# Altium integrated library Philips Discrete Diode - Switching.IntLib: 284 symbols (part 2 of 5)
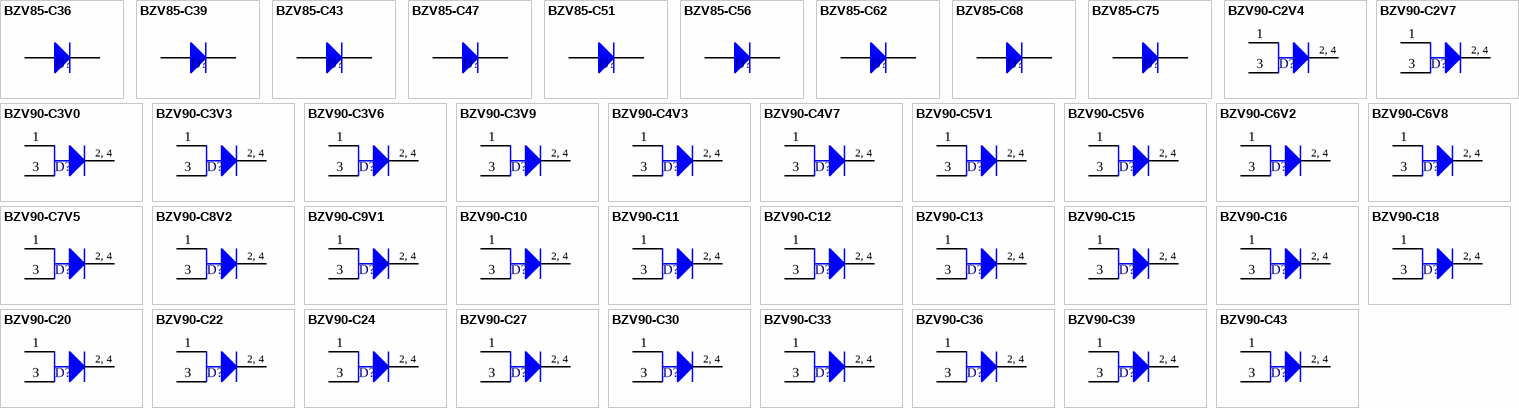
[diagram p8: symbols BZV85-C36 to BZV90-C43]

## BZV90-C27
designator D?
Voltage Regulator Diode; Published: 17-Sep-2003; DatasheetVersion: 17-May-1999; PackageVersion: Aug-2001; PackageReference: SOT223; Publisher: Altium Limited; PackageDescription: SOT-223/SC-73; 4 Leads; Body 6.7 x 7.3 mm, inc. leads (LxW max); ComponentLink1Description: Manufacturer Link; ComponentLink1URL: http://www.semiconductors.philips.com/; ComponentLink2Description: Datasheet; ComponentLink2URL: http://www.semiconductors.philips.com/acrobat/datasheets/BZV90_3.pdf
footprint SOT223 (SOT-223/SC-73; 4 Leads; Body 6.7 x 7.3 mm, inc. leads (LxW max))
simulation model BZV90C27 (SUBCKT)
signal-integrity model BZV90-C27
pins: 1 A, 2 K, 3 A, 4 K
text: 2, 4

## BZV90-C30
designator D?
Voltage Regulator Diode; Published: 17-Sep-2003; DatasheetVersion: 17-May-1999; PackageVersion: Aug-2001; PackageReference: SOT223; Publisher: Altium Limited; PackageDescription: SOT-223/SC-73; 4 Leads; Body 6.7 x 7.3 mm, inc. leads (LxW max); ComponentLink1Description: Manufacturer Link; ComponentLink1URL: http://www.semiconductors.philips.com/; ComponentLink2Description: Datasheet; ComponentLink2URL: http://www.semiconductors.philips.com/acrobat/datasheets/BZV90_3.pdf
footprint SOT223 (SOT-223/SC-73; 4 Leads; Body 6.7 x 7.3 mm, inc. leads (LxW max))
simulation model BZV90C30 (SUBCKT)
signal-integrity model BZV90-C30
pins: 1 A, 2 K, 3 A, 4 K
text: 2, 4

## BZV90-C33
designator D?
Voltage Regulator Diode; Published: 17-Sep-2003; DatasheetVersion: 17-May-1999; PackageVersion: Aug-2001; PackageReference: SOT223; Publisher: Altium Limited; PackageDescription: SOT-223/SC-73; 4 Leads; Body 6.7 x 7.3 mm, inc. leads (LxW max); ComponentLink1Description: Manufacturer Link; ComponentLink1URL: http://www.semiconductors.philips.com/; ComponentLink2Description: Datasheet; ComponentLink2URL: http://www.semiconductors.philips.com/acrobat/datasheets/BZV90_3.pdf
footprint SOT223 (SOT-223/SC-73; 4 Leads; Body 6.7 x 7.3 mm, inc. leads (LxW max))
simulation model BZV90C33 (SUBCKT)
signal-integrity model BZV90-C33
pins: 1 A, 2 K, 3 A, 4 K
text: 2, 4

## BZV90-C36
designator D?
Voltage Regulator Diode; Published: 17-Sep-2003; DatasheetVersion: 17-May-1999; PackageVersion: Aug-2001; PackageReference: SOT223; Publisher: Altium Limited; PackageDescription: SOT-223/SC-73; 4 Leads; Body 6.7 x 7.3 mm, inc. leads (LxW max); ComponentLink1Description: Manufacturer Link; ComponentLink1URL: http://www.semiconductors.philips.com/; ComponentLink2Description: Datasheet; ComponentLink2URL: http://www.semiconductors.philips.com/acrobat/datasheets/BZV90_3.pdf
footprint SOT223 (SOT-223/SC-73; 4 Leads; Body 6.7 x 7.3 mm, inc. leads (LxW max))
simulation model BZV90C36 (SUBCKT)
signal-integrity model BZV90-C36
pins: 1 A, 2 K, 3 A, 4 K
text: 2, 4

## BZV90-C39
designator D?
Voltage Regulator Diode; Published: 17-Sep-2003; DatasheetVersion: 17-May-1999; PackageVersion: Aug-2001; PackageReference: SOT223; Publisher: Altium Limited; PackageDescription: SOT-223/SC-73; 4 Leads; Body 6.7 x 7.3 mm, inc. leads (LxW max); ComponentLink1Description: Manufacturer Link; ComponentLink1URL: http://www.semiconductors.philips.com/; ComponentLink2Description: Datasheet; ComponentLink2URL: http://www.semiconductors.philips.com/acrobat/datasheets/BZV90_3.pdf
footprint SOT223 (SOT-223/SC-73; 4 Leads; Body 6.7 x 7.3 mm, inc. leads (LxW max))
simulation model BZV90C39 (SUBCKT)
signal-integrity model BZV90-C39
pins: 1 A, 2 K, 3 A, 4 K
text: 2, 4

## BZV90-C43
designator D?
Voltage Regulator Diode; Published: 17-Sep-2003; DatasheetVersion: 17-May-1999; PackageVersion: Aug-2001; PackageReference: SOT223; Publisher: Altium Limited; PackageDescription: SOT-223/SC-73; 4 Leads; Body 6.7 x 7.3 mm, inc. leads (LxW max); ComponentLink1Description: Manufacturer Link; ComponentLink1URL: http://www.semiconductors.philips.com/; ComponentLink2Description: Datasheet; ComponentLink2URL: http://www.semiconductors.philips.com/acrobat/datasheets/BZV90_3.pdf
footprint SOT223 (SOT-223/SC-73; 4 Leads; Body 6.7 x 7.3 mm, inc. leads (LxW max))
simulation model BZV90C43 (SUBCKT)
signal-integrity model BZV90-C43
pins: 1 A, 2 K, 3 A, 4 K
text: 2, 4

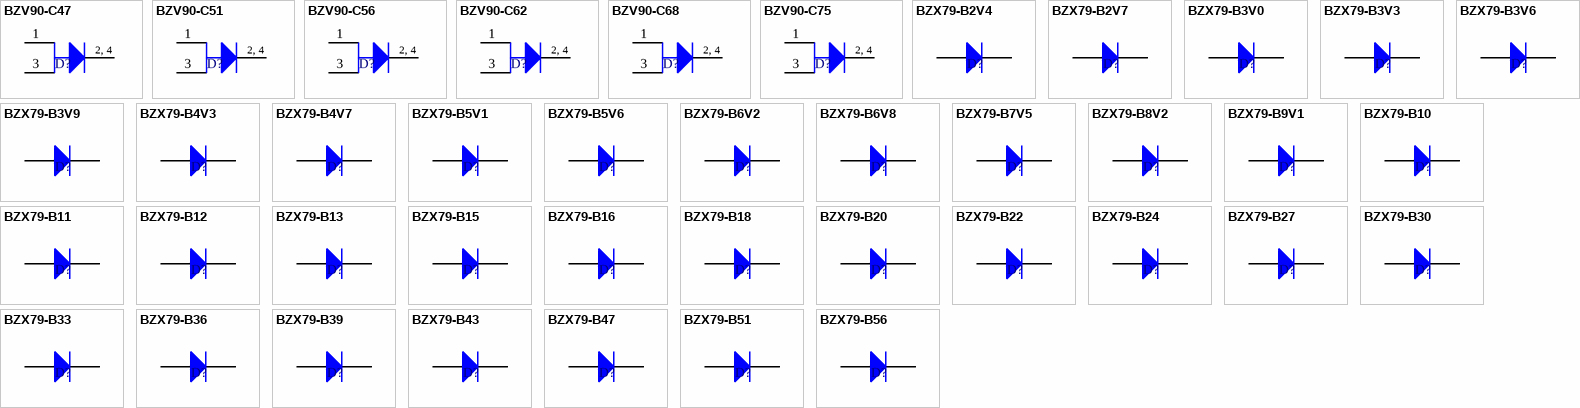
[diagram p2: symbols BZV90-C47 to BZX79-B56]

## BZV90-C47
designator D?
Voltage Regulator Diode; Published: 17-Sep-2003; DatasheetVersion: 17-May-1999; PackageVersion: Aug-2001; PackageReference: SOT223; Publisher: Altium Limited; PackageDescription: SOT-223/SC-73; 4 Leads; Body 6.7 x 7.3 mm, inc. leads (LxW max); ComponentLink1Description: Manufacturer Link; ComponentLink1URL: http://www.semiconductors.philips.com/; ComponentLink2Description: Datasheet; ComponentLink2URL: http://www.semiconductors.philips.com/acrobat/datasheets/BZV90_3.pdf
footprint SOT223 (SOT-223/SC-73; 4 Leads; Body 6.7 x 7.3 mm, inc. leads (LxW max))
simulation model BZV90C47 (SUBCKT)
signal-integrity model BZV90-C47
pins: 1 A, 2 K, 3 A, 4 K
text: 2, 4

## BZV90-C51
designator D?
Voltage Regulator Diode; Published: 17-Sep-2003; DatasheetVersion: 17-May-1999; PackageVersion: Aug-2001; PackageReference: SOT223; Publisher: Altium Limited; PackageDescription: SOT-223/SC-73; 4 Leads; Body 6.7 x 7.3 mm, inc. leads (LxW max); ComponentLink1Description: Manufacturer Link; ComponentLink1URL: http://www.semiconductors.philips.com/; ComponentLink2Description: Datasheet; ComponentLink2URL: http://www.semiconductors.philips.com/acrobat/datasheets/BZV90_3.pdf
footprint SOT223 (SOT-223/SC-73; 4 Leads; Body 6.7 x 7.3 mm, inc. leads (LxW max))
simulation model BZV90C51 (SUBCKT)
signal-integrity model BZV90-C51
pins: 1 A, 2 K, 3 A, 4 K
text: 2, 4

## BZV90-C56
designator D?
Voltage Regulator Diode; Published: 17-Sep-2003; DatasheetVersion: 17-May-1999; PackageVersion: Aug-2001; PackageReference: SOT223; Publisher: Altium Limited; PackageDescription: SOT-223/SC-73; 4 Leads; Body 6.7 x 7.3 mm, inc. leads (LxW max); ComponentLink1Description: Manufacturer Link; ComponentLink1URL: http://www.semiconductors.philips.com/; ComponentLink2Description: Datasheet; ComponentLink2URL: http://www.semiconductors.philips.com/acrobat/datasheets/BZV90_3.pdf
footprint SOT223 (SOT-223/SC-73; 4 Leads; Body 6.7 x 7.3 mm, inc. leads (LxW max))
simulation model BZV90C56 (SUBCKT)
signal-integrity model BZV90-C56
pins: 1 A, 2 K, 3 A, 4 K
text: 2, 4

## BZV90-C62
designator D?
Voltage Regulator Diode; Published: 17-Sep-2003; DatasheetVersion: 17-May-1999; PackageVersion: Aug-2001; PackageReference: SOT223; Publisher: Altium Limited; PackageDescription: SOT-223/SC-73; 4 Leads; Body 6.7 x 7.3 mm, inc. leads (LxW max); ComponentLink1Description: Manufacturer Link; ComponentLink1URL: http://www.semiconductors.philips.com/; ComponentLink2Description: Datasheet; ComponentLink2URL: http://www.semiconductors.philips.com/acrobat/datasheets/BZV90_3.pdf
footprint SOT223 (SOT-223/SC-73; 4 Leads; Body 6.7 x 7.3 mm, inc. leads (LxW max))
simulation model BZV90C62 (SUBCKT)
signal-integrity model BZV90-C62
pins: 1 A, 2 K, 3 A, 4 K
text: 2, 4

## BZV90-C68
designator D?
Voltage Regulator Diode; Published: 17-Sep-2003; DatasheetVersion: 17-May-1999; PackageVersion: Aug-2001; PackageReference: SOT223; Publisher: Altium Limited; PackageDescription: SOT-223/SC-73; 4 Leads; Body 6.7 x 7.3 mm, inc. leads (LxW max); ComponentLink1Description: Manufacturer Link; ComponentLink1URL: http://www.semiconductors.philips.com/; ComponentLink2Description: Datasheet; ComponentLink2URL: http://www.semiconductors.philips.com/acrobat/datasheets/BZV90_3.pdf
footprint SOT223 (SOT-223/SC-73; 4 Leads; Body 6.7 x 7.3 mm, inc. leads (LxW max))
simulation model BZV90C68 (SUBCKT)
signal-integrity model BZV90-C68
pins: 1 A, 2 K, 3 A, 4 K
text: 2, 4

## BZV90-C75
designator D?
Voltage Regulator Diode; Published: 17-Sep-2003; DatasheetVersion: 17-May-1999; PackageVersion: Aug-2001; PackageReference: SOT223; Publisher: Altium Limited; PackageDescription: SOT-223/SC-73; 4 Leads; Body 6.7 x 7.3 mm, inc. leads (LxW max); ComponentLink1Description: Manufacturer Link; ComponentLink1URL: http://www.semiconductors.philips.com/; ComponentLink2Description: Datasheet; ComponentLink2URL: http://www.semiconductors.philips.com/acrobat/datasheets/BZV90_3.pdf
footprint SOT223 (SOT-223/SC-73; 4 Leads; Body 6.7 x 7.3 mm, inc. leads (LxW max))
simulation model BZV90C75 (SUBCKT)
signal-integrity model BZV90-C75
pins: 1 A, 2 K, 3 A, 4 K
text: 2, 4

## BZX79-B2V4
designator D?
Voltage Regulator Diode; Code_IEC: A24; Published: 17-Sep-2003; DatasheetVersion: 27-Feb-2002; PackageVersion: Apr-1999; PackageReference: SOD27; Publisher: Altium Limited; PackageDescription: Diode, Axial; Body 4.3 x 1.9 mm (LxDia. max), Lead Dia. 0.56 mm (max); Code_JEITA: SC-40; Code_JEDEC: DO-35; ComponentLink1Description: Manufacturer Link; ComponentLink1URL: http://www.semiconductors.philips.com/; ComponentLink2Description: Datasheet; ComponentLink2URL: http://www.semiconductors.philips.com/acrobat/datasheets/BZX79_3.pdf
footprint SOD27 (Diode, Axial; Body 4.3 x 1.9 mm (LxDia. max), Lead Dia. 0.56 mm (max))
simulation model BZX79B2V4 (SUBCKT)
signal-integrity model BZX79-B2V4
pins: 1 A, 2 K

## BZX79-B2V7
designator D?
Voltage Regulator Diode; Code_IEC: A24; Published: 17-Sep-2003; DatasheetVersion: 27-Feb-2002; PackageVersion: Apr-1999; PackageReference: SOD27; Publisher: Altium Limited; PackageDescription: Diode, Axial; Body 4.3 x 1.9 mm (LxDia. max), Lead Dia. 0.56 mm (max); Code_JEITA: SC-40; Code_JEDEC: DO-35; ComponentLink1Description: Manufacturer Link; ComponentLink1URL: http://www.semiconductors.philips.com/; ComponentLink2Description: Datasheet; ComponentLink2URL: http://www.semiconductors.philips.com/acrobat/datasheets/BZX79_3.pdf
footprint SOD27 (Diode, Axial; Body 4.3 x 1.9 mm (LxDia. max), Lead Dia. 0.56 mm (max))
simulation model BZX79B2V7 (SUBCKT)
signal-integrity model BZX79-B2V7
pins: 1 A, 2 K

## BZX79-B3V0
designator D?
Voltage Regulator Diode; Code_IEC: A24; Published: 17-Sep-2003; DatasheetVersion: 27-Feb-2002; PackageVersion: Apr-1999; PackageReference: SOD27; Publisher: Altium Limited; PackageDescription: Diode, Axial; Body 4.3 x 1.9 mm (LxDia. max), Lead Dia. 0.56 mm (max); Code_JEITA: SC-40; Code_JEDEC: DO-35; ComponentLink1Description: Manufacturer Link; ComponentLink1URL: http://www.semiconductors.philips.com/; ComponentLink2Description: Datasheet; ComponentLink2URL: http://www.semiconductors.philips.com/acrobat/datasheets/BZX79_3.pdf
footprint SOD27 (Diode, Axial; Body 4.3 x 1.9 mm (LxDia. max), Lead Dia. 0.56 mm (max))
simulation model BZX79B3V0 (SUBCKT)
signal-integrity model BZX79-B3V0
pins: 1 A, 2 K

## BZX79-B3V3
designator D?
Voltage Regulator Diode; Code_IEC: A24; Published: 17-Sep-2003; DatasheetVersion: 27-Feb-2002; PackageVersion: Apr-1999; PackageReference: SOD27; Publisher: Altium Limited; PackageDescription: Diode, Axial; Body 4.3 x 1.9 mm (LxDia. max), Lead Dia. 0.56 mm (max); Code_JEITA: SC-40; Code_JEDEC: DO-35; ComponentLink1Description: Manufacturer Link; ComponentLink1URL: http://www.semiconductors.philips.com/; ComponentLink2Description: Datasheet; ComponentLink2URL: http://www.semiconductors.philips.com/acrobat/datasheets/BZX79_3.pdf
footprint SOD27 (Diode, Axial; Body 4.3 x 1.9 mm (LxDia. max), Lead Dia. 0.56 mm (max))
simulation model BZX79B3V3 (SUBCKT)
signal-integrity model BZX79-B3V3
pins: 1 A, 2 K

## BZX79-B3V6
designator D?
Voltage Regulator Diode; Code_IEC: A24; Published: 17-Sep-2003; DatasheetVersion: 27-Feb-2002; PackageVersion: Apr-1999; PackageReference: SOD27; Publisher: Altium Limited; PackageDescription: Diode, Axial; Body 4.3 x 1.9 mm (LxDia. max), Lead Dia. 0.56 mm (max); Code_JEITA: SC-40; Code_JEDEC: DO-35; ComponentLink1Description: Manufacturer Link; ComponentLink1URL: http://www.semiconductors.philips.com/; ComponentLink2Description: Datasheet; ComponentLink2URL: http://www.semiconductors.philips.com/acrobat/datasheets/BZX79_3.pdf
footprint SOD27 (Diode, Axial; Body 4.3 x 1.9 mm (LxDia. max), Lead Dia. 0.56 mm (max))
simulation model BZX79B3V6 (SUBCKT)
signal-integrity model BZX79-B3V6
pins: 1 A, 2 K

## BZX79-B3V9
designator D?
Voltage Regulator Diode; Code_IEC: A24; Published: 17-Sep-2003; DatasheetVersion: 27-Feb-2002; PackageVersion: Apr-1999; PackageReference: SOD27; Publisher: Altium Limited; PackageDescription: Diode, Axial; Body 4.3 x 1.9 mm (LxDia. max), Lead Dia. 0.56 mm (max); Code_JEITA: SC-40; Code_JEDEC: DO-35; ComponentLink1Description: Manufacturer Link; ComponentLink1URL: http://www.semiconductors.philips.com/; ComponentLink2Description: Datasheet; ComponentLink2URL: http://www.semiconductors.philips.com/acrobat/datasheets/BZX79_3.pdf
footprint SOD27 (Diode, Axial; Body 4.3 x 1.9 mm (LxDia. max), Lead Dia. 0.56 mm (max))
simulation model BZX79B3V9 (SUBCKT)
signal-integrity model BZX79-B3V9
pins: 1 A, 2 K

## BZX79-B4V3
designator D?
Voltage Regulator Diode; Code_IEC: A24; Published: 17-Sep-2003; DatasheetVersion: 27-Feb-2002; PackageVersion: Apr-1999; PackageReference: SOD27; Publisher: Altium Limited; PackageDescription: Diode, Axial; Body 4.3 x 1.9 mm (LxDia. max), Lead Dia. 0.56 mm (max); Code_JEITA: SC-40; Code_JEDEC: DO-35; ComponentLink1Description: Manufacturer Link; ComponentLink1URL: http://www.semiconductors.philips.com/; ComponentLink2Description: Datasheet; ComponentLink2URL: http://www.semiconductors.philips.com/acrobat/datasheets/BZX79_3.pdf
footprint SOD27 (Diode, Axial; Body 4.3 x 1.9 mm (LxDia. max), Lead Dia. 0.56 mm (max))
simulation model BZX79B4V3 (SUBCKT)
signal-integrity model BZX79-B4V3
pins: 1 A, 2 K

## BZX79-B4V7
designator D?
Voltage Regulator Diode; Code_IEC: A24; Published: 17-Sep-2003; DatasheetVersion: 27-Feb-2002; PackageVersion: Apr-1999; PackageReference: SOD27; Publisher: Altium Limited; PackageDescription: Diode, Axial; Body 4.3 x 1.9 mm (LxDia. max), Lead Dia. 0.56 mm (max); Code_JEITA: SC-40; Code_JEDEC: DO-35; ComponentLink1Description: Manufacturer Link; ComponentLink1URL: http://www.semiconductors.philips.com/; ComponentLink2Description: Datasheet; ComponentLink2URL: http://www.semiconductors.philips.com/acrobat/datasheets/BZX79_3.pdf
footprint SOD27 (Diode, Axial; Body 4.3 x 1.9 mm (LxDia. max), Lead Dia. 0.56 mm (max))
simulation model BZX79B4V7 (SUBCKT)
signal-integrity model BZX79-B4V7
pins: 1 A, 2 K

## BZX79-B5V1
designator D?
Voltage Regulator Diode; Code_IEC: A24; Published: 17-Sep-2003; DatasheetVersion: 27-Feb-2002; PackageVersion: Apr-1999; PackageReference: SOD27; Publisher: Altium Limited; PackageDescription: Diode, Axial; Body 4.3 x 1.9 mm (LxDia. max), Lead Dia. 0.56 mm (max); Code_JEITA: SC-40; Code_JEDEC: DO-35; ComponentLink1Description: Manufacturer Link; ComponentLink1URL: http://www.semiconductors.philips.com/; ComponentLink2Description: Datasheet; ComponentLink2URL: http://www.semiconductors.philips.com/acrobat/datasheets/BZX79_3.pdf
footprint SOD27 (Diode, Axial; Body 4.3 x 1.9 mm (LxDia. max), Lead Dia. 0.56 mm (max))
simulation model BZX79B5V1 (SUBCKT)
signal-integrity model BZX79-B5V1
pins: 1 A, 2 K

## BZX79-B5V6
designator D?
Voltage Regulator Diode; Code_IEC: A24; Published: 17-Sep-2003; DatasheetVersion: 27-Feb-2002; PackageVersion: Apr-1999; PackageReference: SOD27; Publisher: Altium Limited; PackageDescription: Diode, Axial; Body 4.3 x 1.9 mm (LxDia. max), Lead Dia. 0.56 mm (max); Code_JEITA: SC-40; Code_JEDEC: DO-35; ComponentLink1Description: Manufacturer Link; ComponentLink1URL: http://www.semiconductors.philips.com/; ComponentLink2Description: Datasheet; ComponentLink2URL: http://www.semiconductors.philips.com/acrobat/datasheets/BZX79_3.pdf
footprint SOD27 (Diode, Axial; Body 4.3 x 1.9 mm (LxDia. max), Lead Dia. 0.56 mm (max))
simulation model BZX79B5V6 (SUBCKT)
signal-integrity model BZX79-B5V6
pins: 1 A, 2 K

## BZX79-B6V2
designator D?
Voltage Regulator Diode; Code_IEC: A24; Published: 17-Sep-2003; DatasheetVersion: 27-Feb-2002; PackageVersion: Apr-1999; PackageReference: SOD27; Publisher: Altium Limited; PackageDescription: Diode, Axial; Body 4.3 x 1.9 mm (LxDia. max), Lead Dia. 0.56 mm (max); Code_JEITA: SC-40; Code_JEDEC: DO-35; ComponentLink1Description: Manufacturer Link; ComponentLink1URL: http://www.semiconductors.philips.com/; ComponentLink2Description: Datasheet; ComponentLink2URL: http://www.semiconductors.philips.com/acrobat/datasheets/BZX79_3.pdf
footprint SOD27 (Diode, Axial; Body 4.3 x 1.9 mm (LxDia. max), Lead Dia. 0.56 mm (max))
simulation model BZX79B6V2 (SUBCKT)
signal-integrity model BZX79-B6V2
pins: 1 A, 2 K

## BZX79-B6V8
designator D?
Voltage Regulator Diode; Code_IEC: A24; Published: 17-Sep-2003; DatasheetVersion: 27-Feb-2002; PackageVersion: Apr-1999; PackageReference: SOD27; Publisher: Altium Limited; PackageDescription: Diode, Axial; Body 4.3 x 1.9 mm (LxDia. max), Lead Dia. 0.56 mm (max); Code_JEITA: SC-40; Code_JEDEC: DO-35; ComponentLink1Description: Manufacturer Link; ComponentLink1URL: http://www.semiconductors.philips.com/; ComponentLink2Description: Datasheet; ComponentLink2URL: http://www.semiconductors.philips.com/acrobat/datasheets/BZX79_3.pdf
footprint SOD27 (Diode, Axial; Body 4.3 x 1.9 mm (LxDia. max), Lead Dia. 0.56 mm (max))
simulation model BZX79B6V8 (SUBCKT)
signal-integrity model BZX79-B6V8
pins: 1 A, 2 K

## BZX79-B7V5
designator D?
Voltage Regulator Diode; Code_IEC: A24; Published: 17-Sep-2003; DatasheetVersion: 27-Feb-2002; PackageVersion: Apr-1999; PackageReference: SOD27; Publisher: Altium Limited; PackageDescription: Diode, Axial; Body 4.3 x 1.9 mm (LxDia. max), Lead Dia. 0.56 mm (max); Code_JEITA: SC-40; Code_JEDEC: DO-35; ComponentLink1Description: Manufacturer Link; ComponentLink1URL: http://www.semiconductors.philips.com/; ComponentLink2Description: Datasheet; ComponentLink2URL: http://www.semiconductors.philips.com/acrobat/datasheets/BZX79_3.pdf
footprint SOD27 (Diode, Axial; Body 4.3 x 1.9 mm (LxDia. max), Lead Dia. 0.56 mm (max))
simulation model BZX79B7V5 (SUBCKT)
signal-integrity model BZX79-B7V5
pins: 1 A, 2 K

## BZX79-B8V2
designator D?
Voltage Regulator Diode; Code_IEC: A24; Published: 17-Sep-2003; DatasheetVersion: 27-Feb-2002; PackageVersion: Apr-1999; PackageReference: SOD27; Publisher: Altium Limited; PackageDescription: Diode, Axial; Body 4.3 x 1.9 mm (LxDia. max), Lead Dia. 0.56 mm (max); Code_JEITA: SC-40; Code_JEDEC: DO-35; ComponentLink1Description: Manufacturer Link; ComponentLink1URL: http://www.semiconductors.philips.com/; ComponentLink2Description: Datasheet; ComponentLink2URL: http://www.semiconductors.philips.com/acrobat/datasheets/BZX79_3.pdf
footprint SOD27 (Diode, Axial; Body 4.3 x 1.9 mm (LxDia. max), Lead Dia. 0.56 mm (max))
simulation model BZX79B8V2 (SUBCKT)
signal-integrity model BZX79-B8V2
pins: 1 A, 2 K

## BZX79-B9V1
designator D?
Voltage Regulator Diode; Code_IEC: A24; Published: 17-Sep-2003; DatasheetVersion: 27-Feb-2002; PackageVersion: Apr-1999; PackageReference: SOD27; Publisher: Altium Limited; PackageDescription: Diode, Axial; Body 4.3 x 1.9 mm (LxDia. max), Lead Dia. 0.56 mm (max); Code_JEITA: SC-40; Code_JEDEC: DO-35; ComponentLink1Description: Manufacturer Link; ComponentLink1URL: http://www.semiconductors.philips.com/; ComponentLink2Description: Datasheet; ComponentLink2URL: http://www.semiconductors.philips.com/acrobat/datasheets/BZX79_3.pdf
footprint SOD27 (Diode, Axial; Body 4.3 x 1.9 mm (LxDia. max), Lead Dia. 0.56 mm (max))
simulation model BZX79B9V1 (SUBCKT)
signal-integrity model BZX79-B9V1
pins: 1 A, 2 K

## BZX79-B10
designator D?
Voltage Regulator Diode; Code_IEC: A24; Published: 17-Sep-2003; DatasheetVersion: 27-Feb-2002; PackageVersion: Apr-1999; PackageReference: SOD27; Publisher: Altium Limited; PackageDescription: Diode, Axial; Body 4.3 x 1.9 mm (LxDia. max), Lead Dia. 0.56 mm (max); Code_JEITA: SC-40; Code_JEDEC: DO-35; ComponentLink1Description: Manufacturer Link; ComponentLink1URL: http://www.semiconductors.philips.com/; ComponentLink2Description: Datasheet; ComponentLink2URL: http://www.semiconductors.philips.com/acrobat/datasheets/BZX79_3.pdf
footprint SOD27 (Diode, Axial; Body 4.3 x 1.9 mm (LxDia. max), Lead Dia. 0.56 mm (max))
simulation model BZX79B10 (SUBCKT)
signal-integrity model BZX79-B10
pins: 1 A, 2 K

## BZX79-B11
designator D?
Voltage Regulator Diode; Code_IEC: A24; Published: 17-Sep-2003; DatasheetVersion: 27-Feb-2002; PackageVersion: Apr-1999; PackageReference: SOD27; Publisher: Altium Limited; PackageDescription: Diode, Axial; Body 4.3 x 1.9 mm (LxDia. max), Lead Dia. 0.56 mm (max); Code_JEITA: SC-40; Code_JEDEC: DO-35; ComponentLink1Description: Manufacturer Link; ComponentLink1URL: http://www.semiconductors.philips.com/; ComponentLink2Description: Datasheet; ComponentLink2URL: http://www.semiconductors.philips.com/acrobat/datasheets/BZX79_3.pdf
footprint SOD27 (Diode, Axial; Body 4.3 x 1.9 mm (LxDia. max), Lead Dia. 0.56 mm (max))
simulation model BZX79B11 (SUBCKT)
signal-integrity model BZX79-B11
pins: 1 A, 2 K

## BZX79-B12
designator D?
Voltage Regulator Diode; Code_IEC: A24; Published: 17-Sep-2003; DatasheetVersion: 27-Feb-2002; PackageVersion: Apr-1999; PackageReference: SOD27; Publisher: Altium Limited; PackageDescription: Diode, Axial; Body 4.3 x 1.9 mm (LxDia. max), Lead Dia. 0.56 mm (max); Code_JEITA: SC-40; Code_JEDEC: DO-35; ComponentLink1Description: Manufacturer Link; ComponentLink1URL: http://www.semiconductors.philips.com/; ComponentLink2Description: Datasheet; ComponentLink2URL: http://www.semiconductors.philips.com/acrobat/datasheets/BZX79_3.pdf
footprint SOD27 (Diode, Axial; Body 4.3 x 1.9 mm (LxDia. max), Lead Dia. 0.56 mm (max))
simulation model BZX79B12 (SUBCKT)
signal-integrity model BZX79-B12
pins: 1 A, 2 K

## BZX79-B13
designator D?
Voltage Regulator Diode; Code_IEC: A24; Published: 17-Sep-2003; DatasheetVersion: 27-Feb-2002; PackageVersion: Apr-1999; PackageReference: SOD27; Publisher: Altium Limited; PackageDescription: Diode, Axial; Body 4.3 x 1.9 mm (LxDia. max), Lead Dia. 0.56 mm (max); Code_JEITA: SC-40; Code_JEDEC: DO-35; ComponentLink1Description: Manufacturer Link; ComponentLink1URL: http://www.semiconductors.philips.com/; ComponentLink2Description: Datasheet; ComponentLink2URL: http://www.semiconductors.philips.com/acrobat/datasheets/BZX79_3.pdf
footprint SOD27 (Diode, Axial; Body 4.3 x 1.9 mm (LxDia. max), Lead Dia. 0.56 mm (max))
simulation model BZX79B13 (SUBCKT)
signal-integrity model BZX79-B13
pins: 1 A, 2 K

## BZX79-B15
designator D?
Voltage Regulator Diode; Code_IEC: A24; Published: 17-Sep-2003; DatasheetVersion: 27-Feb-2002; PackageVersion: Apr-1999; PackageReference: SOD27; Publisher: Altium Limited; PackageDescription: Diode, Axial; Body 4.3 x 1.9 mm (LxDia. max), Lead Dia. 0.56 mm (max); Code_JEITA: SC-40; Code_JEDEC: DO-35; ComponentLink1Description: Manufacturer Link; ComponentLink1URL: http://www.semiconductors.philips.com/; ComponentLink2Description: Datasheet; ComponentLink2URL: http://www.semiconductors.philips.com/acrobat/datasheets/BZX79_3.pdf
footprint SOD27 (Diode, Axial; Body 4.3 x 1.9 mm (LxDia. max), Lead Dia. 0.56 mm (max))
simulation model BZX79B15 (SUBCKT)
signal-integrity model BZX79-B15
pins: 1 A, 2 K

## BZX79-B16
designator D?
Voltage Regulator Diode; Code_IEC: A24; Published: 17-Sep-2003; DatasheetVersion: 27-Feb-2002; PackageVersion: Apr-1999; PackageReference: SOD27; Publisher: Altium Limited; PackageDescription: Diode, Axial; Body 4.3 x 1.9 mm (LxDia. max), Lead Dia. 0.56 mm (max); Code_JEITA: SC-40; Code_JEDEC: DO-35; ComponentLink1Description: Manufacturer Link; ComponentLink1URL: http://www.semiconductors.philips.com/; ComponentLink2Description: Datasheet; ComponentLink2URL: http://www.semiconductors.philips.com/acrobat/datasheets/BZX79_3.pdf
footprint SOD27 (Diode, Axial; Body 4.3 x 1.9 mm (LxDia. max), Lead Dia. 0.56 mm (max))
simulation model BZX79B16 (SUBCKT)
signal-integrity model BZX79-B16
pins: 1 A, 2 K

## BZX79-B18
designator D?
Voltage Regulator Diode; Code_IEC: A24; Published: 17-Sep-2003; DatasheetVersion: 27-Feb-2002; PackageVersion: Apr-1999; PackageReference: SOD27; Publisher: Altium Limited; PackageDescription: Diode, Axial; Body 4.3 x 1.9 mm (LxDia. max), Lead Dia. 0.56 mm (max); Code_JEITA: SC-40; Code_JEDEC: DO-35; ComponentLink1Description: Manufacturer Link; ComponentLink1URL: http://www.semiconductors.philips.com/; ComponentLink2Description: Datasheet; ComponentLink2URL: http://www.semiconductors.philips.com/acrobat/datasheets/BZX79_3.pdf
footprint SOD27 (Diode, Axial; Body 4.3 x 1.9 mm (LxDia. max), Lead Dia. 0.56 mm (max))
simulation model BZX79B18 (SUBCKT)
signal-integrity model BZX79-B18
pins: 1 A, 2 K

## BZX79-B20
designator D?
Voltage Regulator Diode; Code_IEC: A24; Published: 17-Sep-2003; DatasheetVersion: 27-Feb-2002; PackageVersion: Apr-1999; PackageReference: SOD27; Publisher: Altium Limited; PackageDescription: Diode, Axial; Body 4.3 x 1.9 mm (LxDia. max), Lead Dia. 0.56 mm (max); Code_JEITA: SC-40; Code_JEDEC: DO-35; ComponentLink1Description: Manufacturer Link; ComponentLink1URL: http://www.semiconductors.philips.com/; ComponentLink2Description: Datasheet; ComponentLink2URL: http://www.semiconductors.philips.com/acrobat/datasheets/BZX79_3.pdf
footprint SOD27 (Diode, Axial; Body 4.3 x 1.9 mm (LxDia. max), Lead Dia. 0.56 mm (max))
simulation model BZX79B20 (SUBCKT)
signal-integrity model BZX79-B20
pins: 1 A, 2 K

## BZX79-B22
designator D?
Voltage Regulator Diode; Code_IEC: A24; Published: 17-Sep-2003; DatasheetVersion: 27-Feb-2002; PackageVersion: Apr-1999; PackageReference: SOD27; Publisher: Altium Limited; PackageDescription: Diode, Axial; Body 4.3 x 1.9 mm (LxDia. max), Lead Dia. 0.56 mm (max); Code_JEITA: SC-40; Code_JEDEC: DO-35; ComponentLink1Description: Manufacturer Link; ComponentLink1URL: http://www.semiconductors.philips.com/; ComponentLink2Description: Datasheet; ComponentLink2URL: http://www.semiconductors.philips.com/acrobat/datasheets/BZX79_3.pdf
footprint SOD27 (Diode, Axial; Body 4.3 x 1.9 mm (LxDia. max), Lead Dia. 0.56 mm (max))
simulation model BZX79B22 (SUBCKT)
signal-integrity model BZX79-B22
pins: 1 A, 2 K

## BZX79-B24
designator D?
Voltage Regulator Diode; Code_IEC: A24; Published: 17-Sep-2003; DatasheetVersion: 27-Feb-2002; PackageVersion: Apr-1999; PackageReference: SOD27; Publisher: Altium Limited; PackageDescription: Diode, Axial; Body 4.3 x 1.9 mm (LxDia. max), Lead Dia. 0.56 mm (max); Code_JEITA: SC-40; Code_JEDEC: DO-35; ComponentLink1Description: Manufacturer Link; ComponentLink1URL: http://www.semiconductors.philips.com/; ComponentLink2Description: Datasheet; ComponentLink2URL: http://www.semiconductors.philips.com/acrobat/datasheets/BZX79_3.pdf
footprint SOD27 (Diode, Axial; Body 4.3 x 1.9 mm (LxDia. max), Lead Dia. 0.56 mm (max))
simulation model BZX79B24 (SUBCKT)
signal-integrity model BZX79-B24
pins: 1 A, 2 K

## BZX79-B27
designator D?
Voltage Regulator Diode; Code_IEC: A24; Published: 17-Sep-2003; DatasheetVersion: 27-Feb-2002; PackageVersion: Apr-1999; PackageReference: SOD27; Publisher: Altium Limited; PackageDescription: Diode, Axial; Body 4.3 x 1.9 mm (LxDia. max), Lead Dia. 0.56 mm (max); Code_JEITA: SC-40; Code_JEDEC: DO-35; ComponentLink1Description: Manufacturer Link; ComponentLink1URL: http://www.semiconductors.philips.com/; ComponentLink2Description: Datasheet; ComponentLink2URL: http://www.semiconductors.philips.com/acrobat/datasheets/BZX79_3.pdf
footprint SOD27 (Diode, Axial; Body 4.3 x 1.9 mm (LxDia. max), Lead Dia. 0.56 mm (max))
simulation model BZX79B27 (SUBCKT)
signal-integrity model BZX79-B27
pins: 1 A, 2 K

## BZX79-B30
designator D?
Voltage Regulator Diode; Code_IEC: A24; Published: 17-Sep-2003; DatasheetVersion: 27-Feb-2002; PackageVersion: Apr-1999; PackageReference: SOD27; Publisher: Altium Limited; PackageDescription: Diode, Axial; Body 4.3 x 1.9 mm (LxDia. max), Lead Dia. 0.56 mm (max); Code_JEITA: SC-40; Code_JEDEC: DO-35; ComponentLink1Description: Manufacturer Link; ComponentLink1URL: http://www.semiconductors.philips.com/; ComponentLink2Description: Datasheet; ComponentLink2URL: http://www.semiconductors.philips.com/acrobat/datasheets/BZX79_3.pdf
footprint SOD27 (Diode, Axial; Body 4.3 x 1.9 mm (LxDia. max), Lead Dia. 0.56 mm (max))
simulation model BZX79B30 (SUBCKT)
signal-integrity model BZX79-B30
pins: 1 A, 2 K

## BZX79-B33
designator D?
Voltage Regulator Diode; Code_IEC: A24; Published: 17-Sep-2003; DatasheetVersion: 27-Feb-2002; PackageVersion: Apr-1999; PackageReference: SOD27; Publisher: Altium Limited; PackageDescription: Diode, Axial; Body 4.3 x 1.9 mm (LxDia. max), Lead Dia. 0.56 mm (max); Code_JEITA: SC-40; Code_JEDEC: DO-35; ComponentLink1Description: Manufacturer Link; ComponentLink1URL: http://www.semiconductors.philips.com/; ComponentLink2Description: Datasheet; ComponentLink2URL: http://www.semiconductors.philips.com/acrobat/datasheets/BZX79_3.pdf
footprint SOD27 (Diode, Axial; Body 4.3 x 1.9 mm (LxDia. max), Lead Dia. 0.56 mm (max))
simulation model BZX79B33 (SUBCKT)
signal-integrity model BZX79-B33
pins: 1 A, 2 K

## BZX79-B36
designator D?
Voltage Regulator Diode; Code_IEC: A24; Published: 17-Sep-2003; DatasheetVersion: 27-Feb-2002; PackageVersion: Apr-1999; PackageReference: SOD27; Publisher: Altium Limited; PackageDescription: Diode, Axial; Body 4.3 x 1.9 mm (LxDia. max), Lead Dia. 0.56 mm (max); Code_JEITA: SC-40; Code_JEDEC: DO-35; ComponentLink1Description: Manufacturer Link; ComponentLink1URL: http://www.semiconductors.philips.com/; ComponentLink2Description: Datasheet; ComponentLink2URL: http://www.semiconductors.philips.com/acrobat/datasheets/BZX79_3.pdf
footprint SOD27 (Diode, Axial; Body 4.3 x 1.9 mm (LxDia. max), Lead Dia. 0.56 mm (max))
simulation model BZX79B36 (SUBCKT)
signal-integrity model BZX79-B36
pins: 1 A, 2 K

## BZX79-B39
designator D?
Voltage Regulator Diode; Code_IEC: A24; Published: 17-Sep-2003; DatasheetVersion: 27-Feb-2002; PackageVersion: Apr-1999; PackageReference: SOD27; Publisher: Altium Limited; PackageDescription: Diode, Axial; Body 4.3 x 1.9 mm (LxDia. max), Lead Dia. 0.56 mm (max); Code_JEITA: SC-40; Code_JEDEC: DO-35; ComponentLink1Description: Manufacturer Link; ComponentLink1URL: http://www.semiconductors.philips.com/; ComponentLink2Description: Datasheet; ComponentLink2URL: http://www.semiconductors.philips.com/acrobat/datasheets/BZX79_3.pdf
footprint SOD27 (Diode, Axial; Body 4.3 x 1.9 mm (LxDia. max), Lead Dia. 0.56 mm (max))
simulation model BZX79B39 (SUBCKT)
signal-integrity model BZX79-B39
pins: 1 A, 2 K

## BZX79-B43
designator D?
Voltage Regulator Diode; Code_IEC: A24; Published: 17-Sep-2003; DatasheetVersion: 27-Feb-2002; PackageVersion: Apr-1999; PackageReference: SOD27; Publisher: Altium Limited; PackageDescription: Diode, Axial; Body 4.3 x 1.9 mm (LxDia. max), Lead Dia. 0.56 mm (max); Code_JEITA: SC-40; Code_JEDEC: DO-35; ComponentLink1Description: Manufacturer Link; ComponentLink1URL: http://www.semiconductors.philips.com/; ComponentLink2Description: Datasheet; ComponentLink2URL: http://www.semiconductors.philips.com/acrobat/datasheets/BZX79_3.pdf
footprint SOD27 (Diode, Axial; Body 4.3 x 1.9 mm (LxDia. max), Lead Dia. 0.56 mm (max))
simulation model BZX79B43 (SUBCKT)
signal-integrity model BZX79-B43
pins: 1 A, 2 K

## BZX79-B47
designator D?
Voltage Regulator Diode; Code_IEC: A24; Published: 17-Sep-2003; DatasheetVersion: 27-Feb-2002; PackageVersion: Apr-1999; PackageReference: SOD27; Publisher: Altium Limited; PackageDescription: Diode, Axial; Body 4.3 x 1.9 mm (LxDia. max), Lead Dia. 0.56 mm (max); Code_JEITA: SC-40; Code_JEDEC: DO-35; ComponentLink1Description: Manufacturer Link; ComponentLink1URL: http://www.semiconductors.philips.com/; ComponentLink2Description: Datasheet; ComponentLink2URL: http://www.semiconductors.philips.com/acrobat/datasheets/BZX79_3.pdf
footprint SOD27 (Diode, Axial; Body 4.3 x 1.9 mm (LxDia. max), Lead Dia. 0.56 mm (max))
simulation model BZX79B47 (SUBCKT)
signal-integrity model BZX79-B47
pins: 1 A, 2 K

## BZX79-B51
designator D?
Voltage Regulator Diode; Code_IEC: A24; Published: 17-Sep-2003; DatasheetVersion: 27-Feb-2002; PackageVersion: Apr-1999; PackageReference: SOD27; Publisher: Altium Limited; PackageDescription: Diode, Axial; Body 4.3 x 1.9 mm (LxDia. max), Lead Dia. 0.56 mm (max); Code_JEITA: SC-40; Code_JEDEC: DO-35; ComponentLink1Description: Manufacturer Link; ComponentLink1URL: http://www.semiconductors.philips.com/; ComponentLink2Description: Datasheet; ComponentLink2URL: http://www.semiconductors.philips.com/acrobat/datasheets/BZX79_3.pdf
footprint SOD27 (Diode, Axial; Body 4.3 x 1.9 mm (LxDia. max), Lead Dia. 0.56 mm (max))
simulation model BZX79B51 (SUBCKT)
signal-integrity model BZX79-B51
pins: 1 A, 2 K

## BZX79-B56
designator D?
Voltage Regulator Diode; Code_IEC: A24; Published: 17-Sep-2003; DatasheetVersion: 27-Feb-2002; PackageVersion: Apr-1999; PackageReference: SOD27; Publisher: Altium Limited; PackageDescription: Diode, Axial; Body 4.3 x 1.9 mm (LxDia. max), Lead Dia. 0.56 mm (max); Code_JEITA: SC-40; Code_JEDEC: DO-35; ComponentLink1Description: Manufacturer Link; ComponentLink1URL: http://www.semiconductors.philips.com/; ComponentLink2Description: Datasheet; ComponentLink2URL: http://www.semiconductors.philips.com/acrobat/datasheets/BZX79_3.pdf
footprint SOD27 (Diode, Axial; Body 4.3 x 1.9 mm (LxDia. max), Lead Dia. 0.56 mm (max))
simulation model BZX79B56 (SUBCKT)
signal-integrity model BZX79-B56
pins: 1 A, 2 K

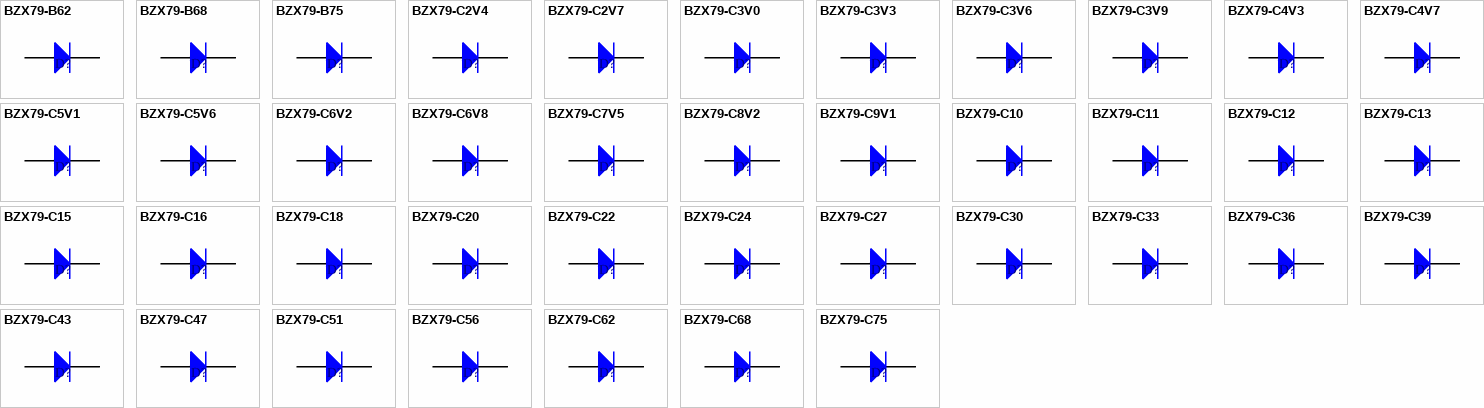
[diagram p3: symbols BZX79-B62 to BZX79-C75]

## BZX79-B62
designator D?
Voltage Regulator Diode; Code_IEC: A24; Published: 17-Sep-2003; DatasheetVersion: 27-Feb-2002; PackageVersion: Apr-1999; PackageReference: SOD27; Publisher: Altium Limited; PackageDescription: Diode, Axial; Body 4.3 x 1.9 mm (LxDia. max), Lead Dia. 0.56 mm (max); Code_JEITA: SC-40; Code_JEDEC: DO-35; ComponentLink1Description: Manufacturer Link; ComponentLink1URL: http://www.semiconductors.philips.com/; ComponentLink2Description: Datasheet; ComponentLink2URL: http://www.semiconductors.philips.com/acrobat/datasheets/BZX79_3.pdf
footprint SOD27 (Diode, Axial; Body 4.3 x 1.9 mm (LxDia. max), Lead Dia. 0.56 mm (max))
simulation model BZX79B62 (SUBCKT)
signal-integrity model BZX79-B62
pins: 1 A, 2 K

## BZX79-B68
designator D?
Voltage Regulator Diode; Code_IEC: A24; Published: 17-Sep-2003; DatasheetVersion: 27-Feb-2002; PackageVersion: Apr-1999; PackageReference: SOD27; Publisher: Altium Limited; PackageDescription: Diode, Axial; Body 4.3 x 1.9 mm (LxDia. max), Lead Dia. 0.56 mm (max); Code_JEITA: SC-40; Code_JEDEC: DO-35; ComponentLink1Description: Manufacturer Link; ComponentLink1URL: http://www.semiconductors.philips.com/; ComponentLink2Description: Datasheet; ComponentLink2URL: http://www.semiconductors.philips.com/acrobat/datasheets/BZX79_3.pdf
footprint SOD27 (Diode, Axial; Body 4.3 x 1.9 mm (LxDia. max), Lead Dia. 0.56 mm (max))
simulation model BZX79B68 (SUBCKT)
signal-integrity model BZX79-B68
pins: 1 A, 2 K

## BZX79-B75
designator D?
Voltage Regulator Diode; Code_IEC: A24; Published: 17-Sep-2003; DatasheetVersion: 27-Feb-2002; PackageVersion: Apr-1999; PackageReference: SOD27; Publisher: Altium Limited; PackageDescription: Diode, Axial; Body 4.3 x 1.9 mm (LxDia. max), Lead Dia. 0.56 mm (max); Code_JEITA: SC-40; Code_JEDEC: DO-35; ComponentLink1Description: Manufacturer Link; ComponentLink1URL: http://www.semiconductors.philips.com/; ComponentLink2Description: Datasheet; ComponentLink2URL: http://www.semiconductors.philips.com/acrobat/datasheets/BZX79_3.pdf
footprint SOD27 (Diode, Axial; Body 4.3 x 1.9 mm (LxDia. max), Lead Dia. 0.56 mm (max))
simulation model BZX79B75 (SUBCKT)
signal-integrity model BZX79-B75
pins: 1 A, 2 K

## BZX79-C2V4
designator D?
Voltage Regulator Diode; Code_IEC: A24; Published: 17-Sep-2003; DatasheetVersion: 27-Feb-2002; PackageVersion: Apr-1999; PackageReference: SOD27; Publisher: Altium Limited; PackageDescription: Diode, Axial; Body 4.3 x 1.9 mm (LxDia. max), Lead Dia. 0.56 mm (max); Code_JEITA: SC-40; Code_JEDEC: DO-35; ComponentLink1Description: Manufacturer Link; ComponentLink1URL: http://www.semiconductors.philips.com/; ComponentLink2Description: Datasheet; ComponentLink2URL: http://www.semiconductors.philips.com/acrobat/datasheets/BZX79_3.pdf
footprint SOD27 (Diode, Axial; Body 4.3 x 1.9 mm (LxDia. max), Lead Dia. 0.56 mm (max))
simulation model BZX79B2V4 (SUBCKT)
signal-integrity model BZX79-C2V4
pins: 1 A, 2 K

## BZX79-C2V7
designator D?
Voltage Regulator Diode; Code_IEC: A24; Published: 17-Sep-2003; DatasheetVersion: 27-Feb-2002; PackageVersion: Apr-1999; PackageReference: SOD27; Publisher: Altium Limited; PackageDescription: Diode, Axial; Body 4.3 x 1.9 mm (LxDia. max), Lead Dia. 0.56 mm (max); Code_JEITA: SC-40; Code_JEDEC: DO-35; ComponentLink1Description: Manufacturer Link; ComponentLink1URL: http://www.semiconductors.philips.com/; ComponentLink2Description: Datasheet; ComponentLink2URL: http://www.semiconductors.philips.com/acrobat/datasheets/BZX79_3.pdf
footprint SOD27 (Diode, Axial; Body 4.3 x 1.9 mm (LxDia. max), Lead Dia. 0.56 mm (max))
simulation model BZX79B2V7 (SUBCKT)
signal-integrity model BZX79-C2V7
pins: 1 A, 2 K

## BZX79-C3V0
designator D?
Voltage Regulator Diode; Code_IEC: A24; Published: 17-Sep-2003; DatasheetVersion: 27-Feb-2002; PackageVersion: Apr-1999; PackageReference: SOD27; Publisher: Altium Limited; PackageDescription: Diode, Axial; Body 4.3 x 1.9 mm (LxDia. max), Lead Dia. 0.56 mm (max); Code_JEITA: SC-40; Code_JEDEC: DO-35; ComponentLink1Description: Manufacturer Link; ComponentLink1URL: http://www.semiconductors.philips.com/; ComponentLink2Description: Datasheet; ComponentLink2URL: http://www.semiconductors.philips.com/acrobat/datasheets/BZX79_3.pdf
footprint SOD27 (Diode, Axial; Body 4.3 x 1.9 mm (LxDia. max), Lead Dia. 0.56 mm (max))
simulation model BZX79B3V0 (SUBCKT)
signal-integrity model BZX79-C3V0
pins: 1 A, 2 K

## BZX79-C3V3
designator D?
Voltage Regulator Diode; Code_IEC: A24; Published: 17-Sep-2003; DatasheetVersion: 27-Feb-2002; PackageVersion: Apr-1999; PackageReference: SOD27; Publisher: Altium Limited; PackageDescription: Diode, Axial; Body 4.3 x 1.9 mm (LxDia. max), Lead Dia. 0.56 mm (max); Code_JEITA: SC-40; Code_JEDEC: DO-35; ComponentLink1Description: Manufacturer Link; ComponentLink1URL: http://www.semiconductors.philips.com/; ComponentLink2Description: Datasheet; ComponentLink2URL: http://www.semiconductors.philips.com/acrobat/datasheets/BZX79_3.pdf
footprint SOD27 (Diode, Axial; Body 4.3 x 1.9 mm (LxDia. max), Lead Dia. 0.56 mm (max))
simulation model BZX79B3V3 (SUBCKT)
signal-integrity model BZX79-C3V3
pins: 1 A, 2 K

## BZX79-C3V6
designator D?
Voltage Regulator Diode; Code_IEC: A24; Published: 17-Sep-2003; DatasheetVersion: 27-Feb-2002; PackageVersion: Apr-1999; PackageReference: SOD27; Publisher: Altium Limited; PackageDescription: Diode, Axial; Body 4.3 x 1.9 mm (LxDia. max), Lead Dia. 0.56 mm (max); Code_JEITA: SC-40; Code_JEDEC: DO-35; ComponentLink1Description: Manufacturer Link; ComponentLink1URL: http://www.semiconductors.philips.com/; ComponentLink2Description: Datasheet; ComponentLink2URL: http://www.semiconductors.philips.com/acrobat/datasheets/BZX79_3.pdf
footprint SOD27 (Diode, Axial; Body 4.3 x 1.9 mm (LxDia. max), Lead Dia. 0.56 mm (max))
simulation model BZX79B3V6 (SUBCKT)
signal-integrity model BZX79-C3V6
pins: 1 A, 2 K

## BZX79-C3V9
designator D?
Voltage Regulator Diode; Code_IEC: A24; Published: 17-Sep-2003; DatasheetVersion: 27-Feb-2002; PackageVersion: Apr-1999; PackageReference: SOD27; Publisher: Altium Limited; PackageDescription: Diode, Axial; Body 4.3 x 1.9 mm (LxDia. max), Lead Dia. 0.56 mm (max); Code_JEITA: SC-40; Code_JEDEC: DO-35; ComponentLink1Description: Manufacturer Link; ComponentLink1URL: http://www.semiconductors.philips.com/; ComponentLink2Description: Datasheet; ComponentLink2URL: http://www.semiconductors.philips.com/acrobat/datasheets/BZX79_3.pdf
footprint SOD27 (Diode, Axial; Body 4.3 x 1.9 mm (LxDia. max), Lead Dia. 0.56 mm (max))
simulation model BZX79B3V9 (SUBCKT)
signal-integrity model BZX79-C3V9
pins: 1 A, 2 K

## BZX79-C4V3
designator D?
Voltage Regulator Diode; Code_IEC: A24; Published: 17-Sep-2003; DatasheetVersion: 27-Feb-2002; PackageVersion: Apr-1999; PackageReference: SOD27; Publisher: Altium Limited; PackageDescription: Diode, Axial; Body 4.3 x 1.9 mm (LxDia. max), Lead Dia. 0.56 mm (max); Code_JEITA: SC-40; Code_JEDEC: DO-35; ComponentLink1Description: Manufacturer Link; ComponentLink1URL: http://www.semiconductors.philips.com/; ComponentLink2Description: Datasheet; ComponentLink2URL: http://www.semiconductors.philips.com/acrobat/datasheets/BZX79_3.pdf
footprint SOD27 (Diode, Axial; Body 4.3 x 1.9 mm (LxDia. max), Lead Dia. 0.56 mm (max))
simulation model BZX79B4V3 (SUBCKT)
signal-integrity model BZX79-C4V3
pins: 1 A, 2 K

## BZX79-C4V7
designator D?
Voltage Regulator Diode; Code_IEC: A24; Published: 17-Sep-2003; DatasheetVersion: 27-Feb-2002; PackageVersion: Apr-1999; PackageReference: SOD27; Publisher: Altium Limited; PackageDescription: Diode, Axial; Body 4.3 x 1.9 mm (LxDia. max), Lead Dia. 0.56 mm (max); Code_JEITA: SC-40; Code_JEDEC: DO-35; ComponentLink1Description: Manufacturer Link; ComponentLink1URL: http://www.semiconductors.philips.com/; ComponentLink2Description: Datasheet; ComponentLink2URL: http://www.semiconductors.philips.com/acrobat/datasheets/BZX79_3.pdf
footprint SOD27 (Diode, Axial; Body 4.3 x 1.9 mm (LxDia. max), Lead Dia. 0.56 mm (max))
simulation model BZX79B4V7 (SUBCKT)
signal-integrity model BZX79-C4V7
pins: 1 A, 2 K

## BZX79-C5V1
designator D?
Voltage Regulator Diode; Code_IEC: A24; Published: 17-Sep-2003; DatasheetVersion: 27-Feb-2002; PackageVersion: Apr-1999; PackageReference: SOD27; Publisher: Altium Limited; PackageDescription: Diode, Axial; Body 4.3 x 1.9 mm (LxDia. max), Lead Dia. 0.56 mm (max); Code_JEITA: SC-40; Code_JEDEC: DO-35; ComponentLink1Description: Manufacturer Link; ComponentLink1URL: http://www.semiconductors.philips.com/; ComponentLink2Description: Datasheet; ComponentLink2URL: http://www.semiconductors.philips.com/acrobat/datasheets/BZX79_3.pdf
footprint SOD27 (Diode, Axial; Body 4.3 x 1.9 mm (LxDia. max), Lead Dia. 0.56 mm (max))
simulation model BZX79B5V1 (SUBCKT)
signal-integrity model BZX79-C5V1
pins: 1 A, 2 K

## BZX79-C5V6
designator D?
Voltage Regulator Diode; Code_IEC: A24; Published: 17-Sep-2003; DatasheetVersion: 27-Feb-2002; PackageVersion: Apr-1999; PackageReference: SOD27; Publisher: Altium Limited; PackageDescription: Diode, Axial; Body 4.3 x 1.9 mm (LxDia. max), Lead Dia. 0.56 mm (max); Code_JEITA: SC-40; Code_JEDEC: DO-35; ComponentLink1Description: Manufacturer Link; ComponentLink1URL: http://www.semiconductors.philips.com/; ComponentLink2Description: Datasheet; ComponentLink2URL: http://www.semiconductors.philips.com/acrobat/datasheets/BZX79_3.pdf
footprint SOD27 (Diode, Axial; Body 4.3 x 1.9 mm (LxDia. max), Lead Dia. 0.56 mm (max))
simulation model BZX79B5V6 (SUBCKT)
signal-integrity model BZX79-C5V6
pins: 1 A, 2 K

## BZX79-C6V2
designator D?
Voltage Regulator Diode; Code_IEC: A24; Published: 17-Sep-2003; DatasheetVersion: 27-Feb-2002; PackageVersion: Apr-1999; PackageReference: SOD27; Publisher: Altium Limited; PackageDescription: Diode, Axial; Body 4.3 x 1.9 mm (LxDia. max), Lead Dia. 0.56 mm (max); Code_JEITA: SC-40; Code_JEDEC: DO-35; ComponentLink1Description: Manufacturer Link; ComponentLink1URL: http://www.semiconductors.philips.com/; ComponentLink2Description: Datasheet; ComponentLink2URL: http://www.semiconductors.philips.com/acrobat/datasheets/BZX79_3.pdf
footprint SOD27 (Diode, Axial; Body 4.3 x 1.9 mm (LxDia. max), Lead Dia. 0.56 mm (max))
simulation model BZX79B6V2 (SUBCKT)
signal-integrity model BZX79-C6V2
pins: 1 A, 2 K

## BZX79-C6V8
designator D?
Voltage Regulator Diode; Code_IEC: A24; Published: 17-Sep-2003; DatasheetVersion: 27-Feb-2002; PackageVersion: Apr-1999; PackageReference: SOD27; Publisher: Altium Limited; PackageDescription: Diode, Axial; Body 4.3 x 1.9 mm (LxDia. max), Lead Dia. 0.56 mm (max); Code_JEITA: SC-40; Code_JEDEC: DO-35; ComponentLink1Description: Manufacturer Link; ComponentLink1URL: http://www.semiconductors.philips.com/; ComponentLink2Description: Datasheet; ComponentLink2URL: http://www.semiconductors.philips.com/acrobat/datasheets/BZX79_3.pdf
footprint SOD27 (Diode, Axial; Body 4.3 x 1.9 mm (LxDia. max), Lead Dia. 0.56 mm (max))
simulation model BZX79B6V8 (SUBCKT)
signal-integrity model BZX79-C6V8
pins: 1 A, 2 K

## BZX79-C7V5
designator D?
Voltage Regulator Diode; Code_IEC: A24; Published: 17-Sep-2003; DatasheetVersion: 27-Feb-2002; PackageVersion: Apr-1999; PackageReference: SOD27; Publisher: Altium Limited; PackageDescription: Diode, Axial; Body 4.3 x 1.9 mm (LxDia. max), Lead Dia. 0.56 mm (max); Code_JEITA: SC-40; Code_JEDEC: DO-35; ComponentLink1Description: Manufacturer Link; ComponentLink1URL: http://www.semiconductors.philips.com/; ComponentLink2Description: Datasheet; ComponentLink2URL: http://www.semiconductors.philips.com/acrobat/datasheets/BZX79_3.pdf
footprint SOD27 (Diode, Axial; Body 4.3 x 1.9 mm (LxDia. max), Lead Dia. 0.56 mm (max))
simulation model BZX79B7V5 (SUBCKT)
signal-integrity model BZX79-C7V5
pins: 1 A, 2 K

## BZX79-C8V2
designator D?
Voltage Regulator Diode; Code_IEC: A24; Published: 17-Sep-2003; DatasheetVersion: 27-Feb-2002; PackageVersion: Apr-1999; PackageReference: SOD27; Publisher: Altium Limited; PackageDescription: Diode, Axial; Body 4.3 x 1.9 mm (LxDia. max), Lead Dia. 0.56 mm (max); Code_JEITA: SC-40; Code_JEDEC: DO-35; ComponentLink1Description: Manufacturer Link; ComponentLink1URL: http://www.semiconductors.philips.com/; ComponentLink2Description: Datasheet; ComponentLink2URL: http://www.semiconductors.philips.com/acrobat/datasheets/BZX79_3.pdf
footprint SOD27 (Diode, Axial; Body 4.3 x 1.9 mm (LxDia. max), Lead Dia. 0.56 mm (max))
simulation model BZX79B8V2 (SUBCKT)
signal-integrity model BZX79-C8V2
pins: 1 A, 2 K

## BZX79-C9V1
designator D?
Voltage Regulator Diode; Code_IEC: A24; Published: 17-Sep-2003; DatasheetVersion: 27-Feb-2002; PackageVersion: Apr-1999; PackageReference: SOD27; Publisher: Altium Limited; PackageDescription: Diode, Axial; Body 4.3 x 1.9 mm (LxDia. max), Lead Dia. 0.56 mm (max); Code_JEITA: SC-40; Code_JEDEC: DO-35; ComponentLink1Description: Manufacturer Link; ComponentLink1URL: http://www.semiconductors.philips.com/; ComponentLink2Description: Datasheet; ComponentLink2URL: http://www.semiconductors.philips.com/acrobat/datasheets/BZX79_3.pdf
footprint SOD27 (Diode, Axial; Body 4.3 x 1.9 mm (LxDia. max), Lead Dia. 0.56 mm (max))
simulation model BZX79B9V1 (SUBCKT)
signal-integrity model BZX79-C9V1
pins: 1 A, 2 K

## BZX79-C10
designator D?
Voltage Regulator Diode; Code_IEC: A24; Published: 17-Sep-2003; DatasheetVersion: 27-Feb-2002; PackageVersion: Apr-1999; PackageReference: SOD27; Publisher: Altium Limited; PackageDescription: Diode, Axial; Body 4.3 x 1.9 mm (LxDia. max), Lead Dia. 0.56 mm (max); Code_JEITA: SC-40; Code_JEDEC: DO-35; ComponentLink1Description: Manufacturer Link; ComponentLink1URL: http://www.semiconductors.philips.com/; ComponentLink2Description: Datasheet; ComponentLink2URL: http://www.semiconductors.philips.com/acrobat/datasheets/BZX79_3.pdf
footprint SOD27 (Diode, Axial; Body 4.3 x 1.9 mm (LxDia. max), Lead Dia. 0.56 mm (max))
simulation model BZX79B10 (SUBCKT)
signal-integrity model BZX79-C10
pins: 1 A, 2 K

## BZX79-C11
designator D?
Voltage Regulator Diode; Code_IEC: A24; Published: 17-Sep-2003; DatasheetVersion: 27-Feb-2002; PackageVersion: Apr-1999; PackageReference: SOD27; Publisher: Altium Limited; PackageDescription: Diode, Axial; Body 4.3 x 1.9 mm (LxDia. max), Lead Dia. 0.56 mm (max); Code_JEITA: SC-40; Code_JEDEC: DO-35; ComponentLink1Description: Manufacturer Link; ComponentLink1URL: http://www.semiconductors.philips.com/; ComponentLink2Description: Datasheet; ComponentLink2URL: http://www.semiconductors.philips.com/acrobat/datasheets/BZX79_3.pdf
footprint SOD27 (Diode, Axial; Body 4.3 x 1.9 mm (LxDia. max), Lead Dia. 0.56 mm (max))
simulation model BZX79B11 (SUBCKT)
signal-integrity model BZX79-C11
pins: 1 A, 2 K

## BZX79-C12
designator D?
Voltage Regulator Diode; Code_IEC: A24; Published: 17-Sep-2003; DatasheetVersion: 27-Feb-2002; PackageVersion: Apr-1999; PackageReference: SOD27; Publisher: Altium Limited; PackageDescription: Diode, Axial; Body 4.3 x 1.9 mm (LxDia. max), Lead Dia. 0.56 mm (max); Code_JEITA: SC-40; Code_JEDEC: DO-35; ComponentLink1Description: Manufacturer Link; ComponentLink1URL: http://www.semiconductors.philips.com/; ComponentLink2Description: Datasheet; ComponentLink2URL: http://www.semiconductors.philips.com/acrobat/datasheets/BZX79_3.pdf
footprint SOD27 (Diode, Axial; Body 4.3 x 1.9 mm (LxDia. max), Lead Dia. 0.56 mm (max))
simulation model BZX79B12 (SUBCKT)
signal-integrity model BZX79-C12
pins: 1 A, 2 K

## BZX79-C13
designator D?
Voltage Regulator Diode; Code_IEC: A24; Published: 17-Sep-2003; DatasheetVersion: 27-Feb-2002; PackageVersion: Apr-1999; PackageReference: SOD27; Publisher: Altium Limited; PackageDescription: Diode, Axial; Body 4.3 x 1.9 mm (LxDia. max), Lead Dia. 0.56 mm (max); Code_JEITA: SC-40; Code_JEDEC: DO-35; ComponentLink1Description: Manufacturer Link; ComponentLink1URL: http://www.semiconductors.philips.com/; ComponentLink2Description: Datasheet; ComponentLink2URL: http://www.semiconductors.philips.com/acrobat/datasheets/BZX79_3.pdf
footprint SOD27 (Diode, Axial; Body 4.3 x 1.9 mm (LxDia. max), Lead Dia. 0.56 mm (max))
simulation model BZX79B13 (SUBCKT)
signal-integrity model BZX79-C13
pins: 1 A, 2 K